# Altium integrated library switch.IntLib: 108 symbols
Pins are listed as number, name and electrical type; pins without a type are passive.

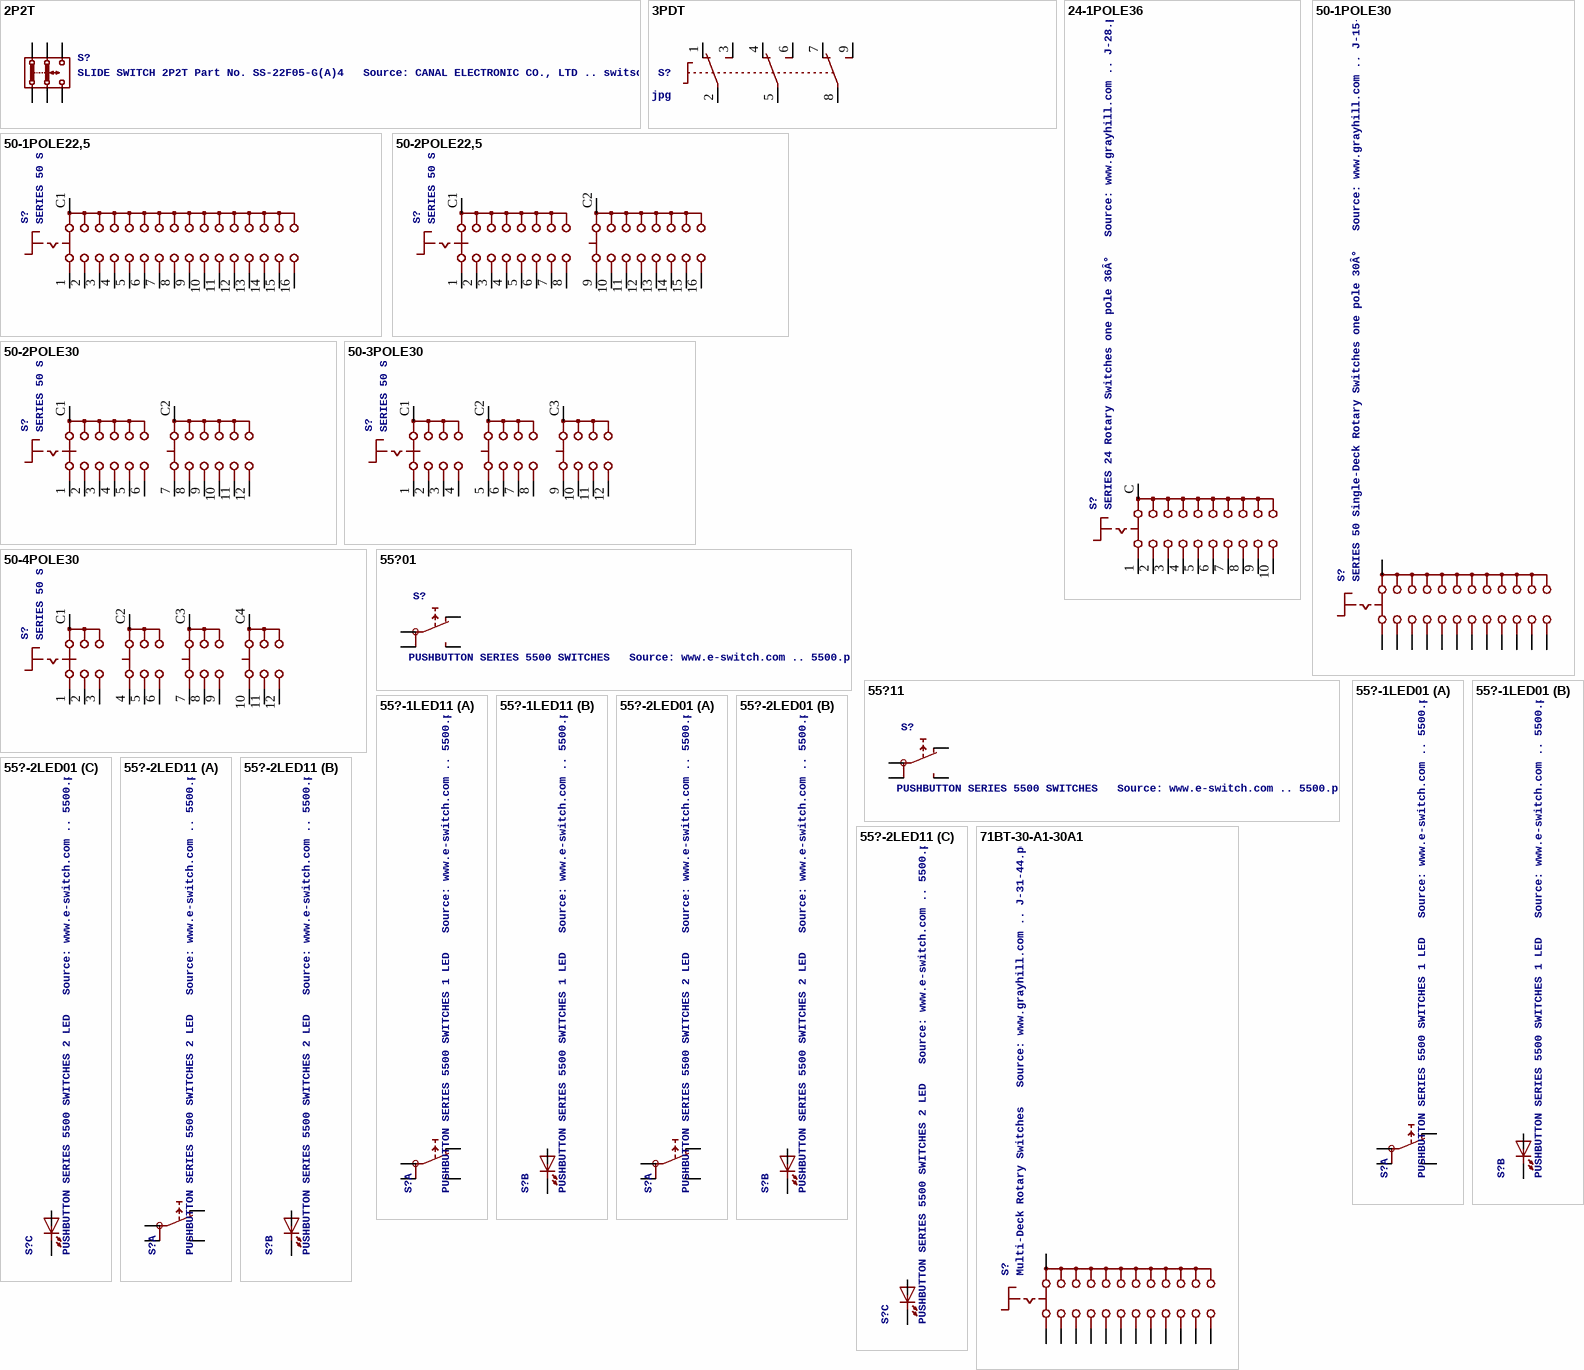
[diagram p0: symbols 2P2T to 71BT-30-A1-30A1]

## 2P2T
designator S?, comment SLIDE SWITCH 2P2T Part No. SS-22F05-G(A)4   Source: CANAL ELECTRONIC CO., LTD .. switsch.pdf
footprint 2P2T
pins: 1.1, 1.2, 2.1, 2.2, 3.1, 3.2

## 3PDT
designator S?, comment 3PDT 9 pin footswitch SF17020F-0302-21R-L   Source: 3PDT.jpg
footprint 3PDT
pins: 1 O1, 2 P1, 3 S1, 4 O2, 5 P2, 6 S2, 7 O3, 8 P3, 9 S3

## 24-1POLE36
designator S?, comment SERIES 24 Rotary Switches one pole 36Â°   Source: www.grayhill.com .. J-28.pdf
footprint 24-1POLE36
pins: 1, 2, 3, 4, 5, 6, 7, 8, 9, 10, C S

## 50-1POLE22,5
designator S?, comment SERIES 50 Single-Deck Rotary Switches one pole 22.5Â°   Source: www.grayhill.com .. J-15-21.pdf
footprint 50-1POLE22,5
pins: 1, 2, 3, 4, 5, 6, 7, 8, 9, 10, 11, 12, 13, 14, 15, 16, C1 C

## 50-1POLE30
designator S?, comment SERIES 50 Single-Deck Rotary Switches one pole 30Â°   Source: www.grayhill.com .. J-15-21.pdf
footprint 50-1POLE30
pins: 1, 2, 3, 4, 5, 6, 7, 8, 9, 10, 11, 12, C A

## 50-2POLE22,5
designator S?, comment SERIES 50 Single-Deck Rotary Switches two pole 22.5Â°   Source: www.grayhill.com .. J-15-21.pdf
footprint 50-2POLE22,5
pins: 1 11, 2 21, 3 31, 4 41, 5 51, 6 61, 7 71, 8 81, 9 12, 10 22, 11 32, 12 42, 13 52, 14 62, 15 72, 16 82, C1 S1, C2 S2

## 50-2POLE30
designator S?, comment SERIES 50 Single-Deck Rotary Switches two pole 30Â°   Source: www.grayhill.com .. J-15-21.pdf
footprint 50-2POLE30
pins: 1 11, 2 21, 3 31, 4 41, 5 51, 6 61, 7 12, 8 22, 9 32, 10 42, 11 52, 12 62, C1 S1, C2 S2

## 50-3POLE30
designator S?, comment SERIES 50 Single-Deck Rotary Switches three pole 30Â°   Source: www.grayhill.com .. J-15-21.pdf
footprint 50-3POLE30
pins: 1 A1, 2 A2, 3 A3, 4 A4, 5 B1, 6 B2, 7 B3, 8 B4, 9 C1, 10 C2, 11 C3, 12 C4, C1 A, C2 B, C3 C

## 50-4POLE30
designator S?, comment SERIES 50 Single-Deck Rotary Switches four pole 30Â°   Source: www.grayhill.com .. J-15-21.pdf
footprint 50-4POLE30
pins: 1 A1, 2 A2, 3 A3, 4 B1, 5 B2, 6 B3, 7 C1, 8 C2, 9 C3, 10 D1, 11 D2, 12 D3, C1 A, C2 B, C3 C, C4 D

## 55?01
designator S?, comment PUSHBUTTON SERIES 5500 SWITCHES   Source: www.e-switch.com .. 5500.pdf
footprint 5501
pins: 1A, 1B, NC, NO

## 55?11
designator S?, comment PUSHBUTTON SERIES 5500 SWITCHES   Source: www.e-switch.com .. 5500.pdf
footprint 5511
pins: 1A, 1B, NC, NO

## 55?-1LED01
designator S?, comment PUSHBUTTON SERIES 5500 SWITCHES 1 LED   Source: www.e-switch.com .. 5500.pdf
footprint 5501-1LED
part A pins: 1A, 1B, NC, NO
part B pins: + A, - K

## 55?-1LED11
designator S?, comment PUSHBUTTON SERIES 5500 SWITCHES 1 LED   Source: www.e-switch.com .. 5500.pdf
footprint 5511-1LED
part A pins: 1A, 1B, NC, NO
part B pins: +G A, -G K

## 55?-2LED01
designator S?, comment PUSHBUTTON SERIES 5500 SWITCHES 2 LED   Source: www.e-switch.com .. 5500.pdf
footprint 5501-2LED
part A pins: 1A, 1B, NC, NO
part B pins: +R A, -R K
part C pins: +G A, -G K

## 55?-2LED11
designator S?, comment PUSHBUTTON SERIES 5500 SWITCHES 2 LED   Source: www.e-switch.com .. 5500.pdf
footprint 5511-2LED
part A pins: 1A, 1B, NC, NO
part B pins: +Y A, -Y K
part C pins: +R A, -R K

## 71BT-30-A1-30A1
designator S?, comment Multi-Deck Rotary Switches   Source: www.grayhill.com .. J-31-44.pdf
footprint 71BT-30-A1
pins: A1 1, A2 2, A3 3, A4 4, A5 5, A6 6, A7 7, A8 8, A9 9, A10 10, A11 11, A12 12, A-C1 A

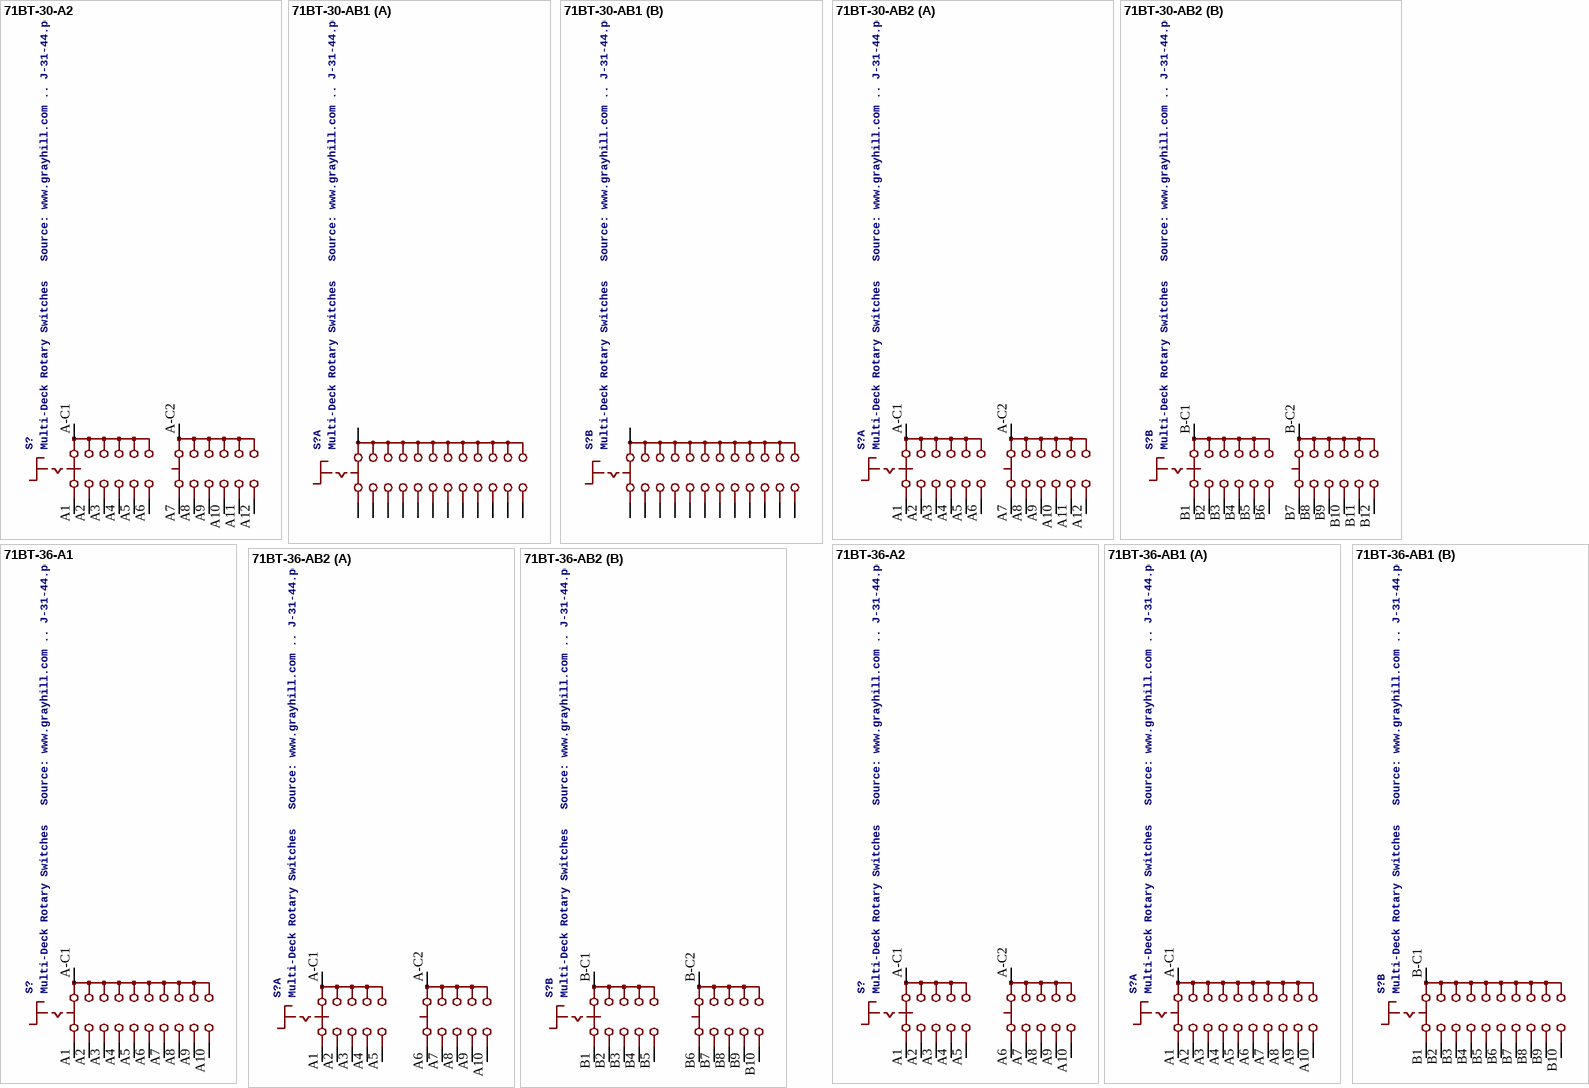
[diagram p1: symbols 71BT-30-A2 to 71BT-36-AB2]

## 71BT-30-A2
designator S?, comment Multi-Deck Rotary Switches   Source: www.grayhill.com .. J-31-44.pdf
footprint 71BT-30-A2
pins: A1 11, A2 21, A3 31, A4 41, A5 51, A6 61, A7 12, A8 22, A9 32, A10 42, A11 52, A12 62, A-C1 S1, A-C2 S2

## 71BT-30-AB1
designator S?, comment Multi-Deck Rotary Switches   Source: www.grayhill.com .. J-31-44.pdf
footprint 71BT-30-AB1
part A pins: A1 1, A2 2, A3 3, A4 4, A5 5, A6 6, A7 7, A8 8, A9 9, A10 10, A11 11, A12 12, A-C1 A
part B pins: B1 1, B2 2, B3 3, B4 4, B5 5, B6 6, B7 7, B8 8, B9 9, B10 10, B11 11, B12 12, B-C1 A

## 71BT-30-AB2
designator S?, comment Multi-Deck Rotary Switches   Source: www.grayhill.com .. J-31-44.pdf
footprint 71BT-30-AB2
part A pins: A1 11, A2 21, A3 31, A4 41, A5 51, A6 61, A7 12, A8 22, A9 32, A10 42, A11 52, A12 62, A-C1 S1, A-C2 S2
part B pins: B1 11, B2 21, B3 31, B4 41, B5 51, B6 61, B7 12, B8 22, B9 32, B10 42, B11 52, B12 62, B-C1 S1, B-C2 S2

## 71BT-36-A1
designator S?, comment Multi-Deck Rotary Switches   Source: www.grayhill.com .. J-31-44.pdf
footprint 71BT-36-A1
pins: A1 1, A2 2, A3 3, A4 4, A5 5, A6 6, A7 7, A8 8, A9 9, A10 10, A-C1 S

## 71BT-36-A2
designator S?, comment Multi-Deck Rotary Switches   Source: www.grayhill.com .. J-31-44.pdf
footprint 71BT-36-A2
pins: A1 11, A2 21, A3 31, A4 41, A5 51, A6 12, A7 22, A8 32, A9 42, A10 52, A-C1 C1, A-C2 C2

## 71BT-36-AB1
designator S?, comment Multi-Deck Rotary Switches   Source: www.grayhill.com .. J-31-44.pdf
footprint 71BT-36-AB1
part A pins: A1 1, A2 2, A3 3, A4 4, A5 5, A6 6, A7 7, A8 8, A9 9, A10 10, A-C1 S
part B pins: B1 1, B2 2, B3 3, B4 4, B5 5, B6 6, B7 7, B8 8, B9 9, B10 10, B-C1 S

## 71BT-36-AB2
designator S?, comment Multi-Deck Rotary Switches   Source: www.grayhill.com .. J-31-44.pdf
footprint 71BT-36-AB2
part A pins: A1 11, A2 21, A3 31, A4 41, A5 51, A6 12, A7 22, A8 32, A9 42, A10 52, A-C1 C1, A-C2 C2
part B pins: B1 11, B2 21, B3 31, B4 41, B5 51, B6 12, B7 22, B8 32, B9 42, B10 52, B-C1 C1, B-C2 C2

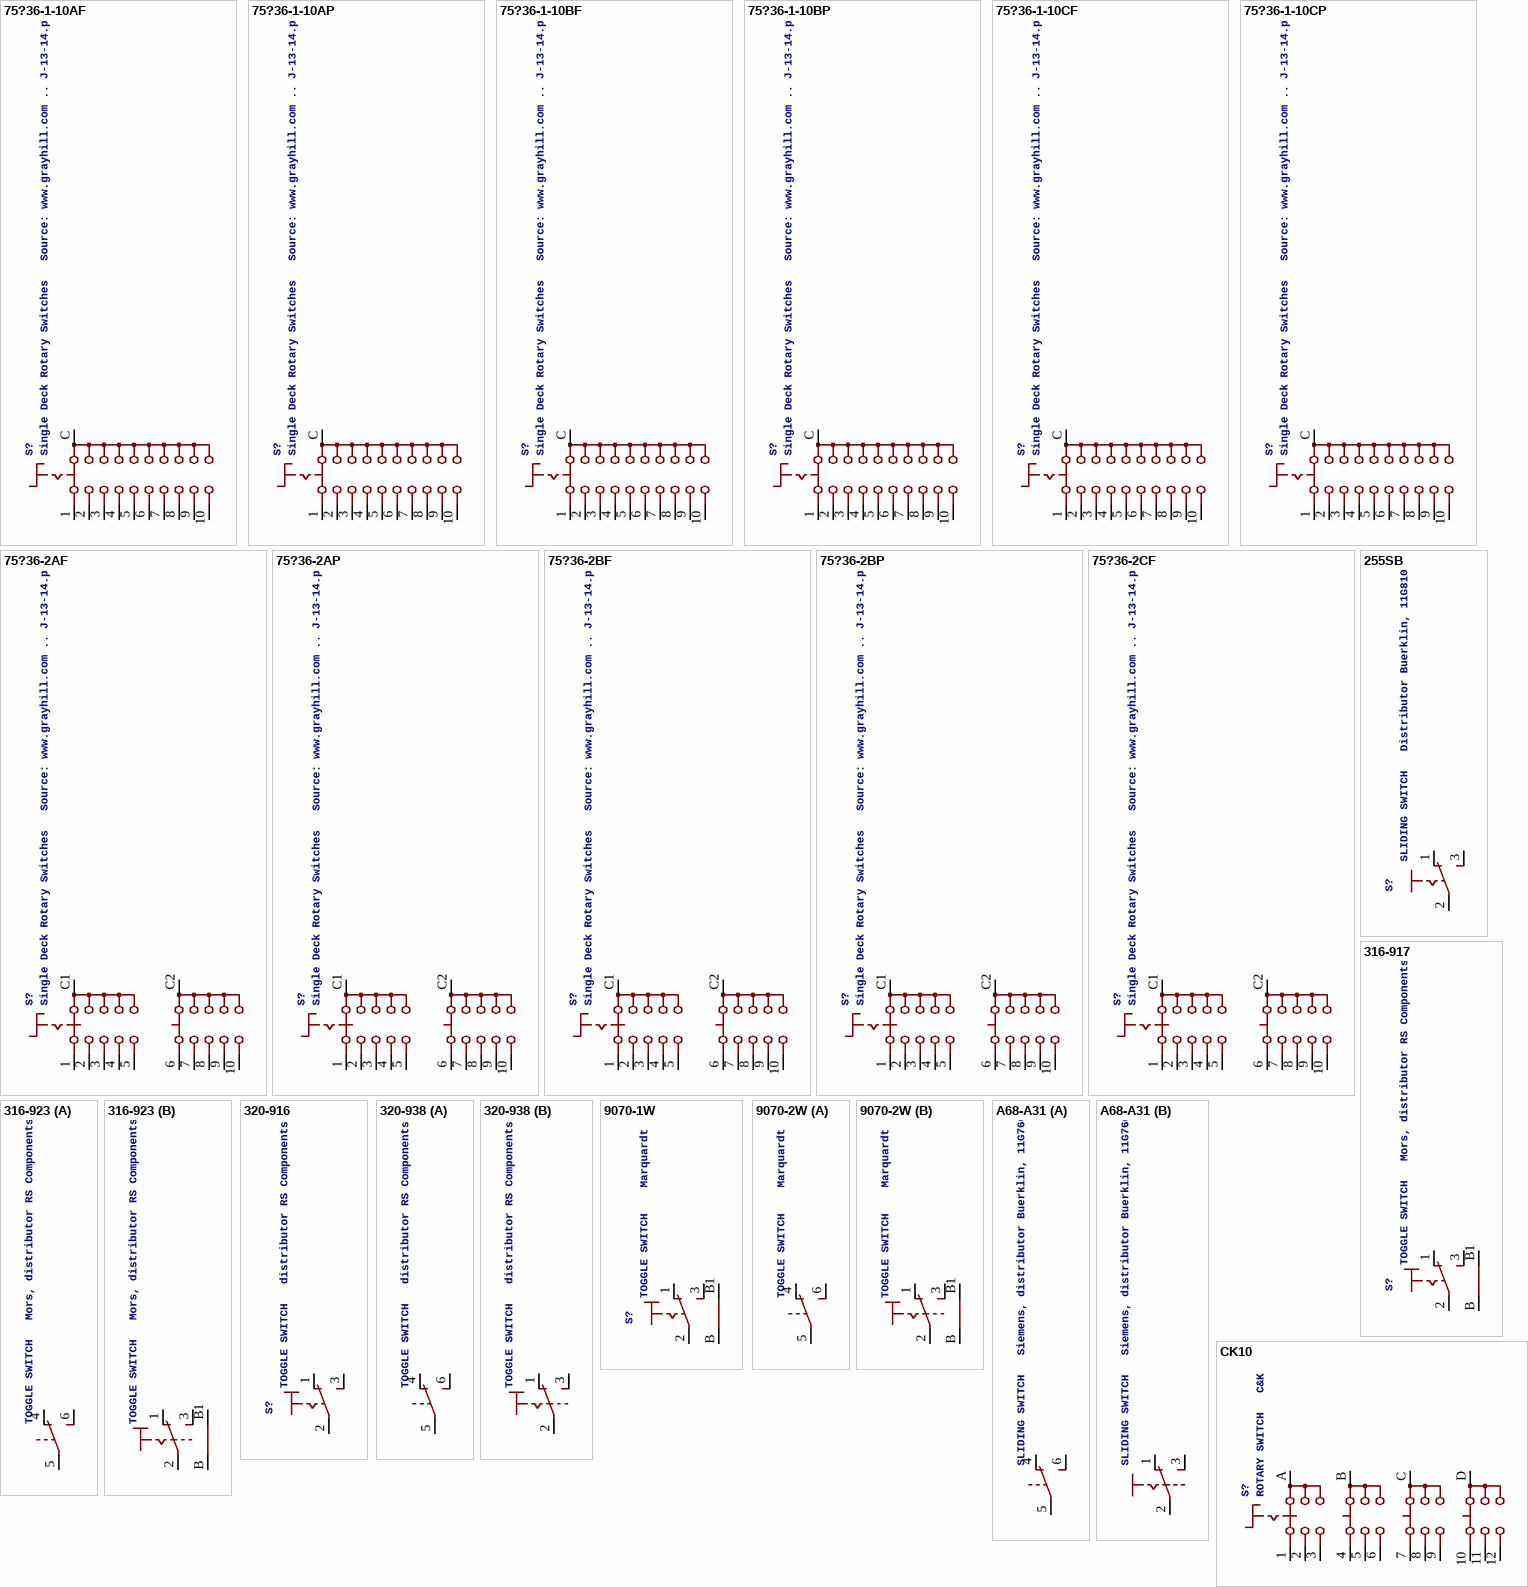
[diagram p2: symbols 75?36-1-10AF to CK10]

## 75?36-1-10AF
designator S?, comment Single Deck Rotary Switches   Source: www.grayhill.com .. J-13-14.pdf
footprint 75AF36
pins: 1, 2, 3, 4, 5, 6, 7, 8, 9, 10, C S

## 75?36-1-10AP
designator S?, comment Single Deck Rotary Switches   Source: www.grayhill.com .. J-13-14.pdf
footprint 75AP36
pins: 1, 2, 3, 4, 5, 6, 7, 8, 9, 10, C S

## 75?36-1-10BF
designator S?, comment Single Deck Rotary Switches   Source: www.grayhill.com .. J-13-14.pdf
footprint 75BF36
pins: 1, 2, 3, 4, 5, 6, 7, 8, 9, 10, C S

## 75?36-1-10BP
designator S?, comment Single Deck Rotary Switches   Source: www.grayhill.com .. J-13-14.pdf
footprint 75BP36
pins: 1, 2, 3, 4, 5, 6, 7, 8, 9, 10, C S

## 75?36-1-10CF
designator S?, comment Single Deck Rotary Switches   Source: www.grayhill.com .. J-13-14.pdf
footprint 75CF36
pins: 1, 2, 3, 4, 5, 6, 7, 8, 9, 10, C S

## 75?36-1-10CP
designator S?, comment Single Deck Rotary Switches   Source: www.grayhill.com .. J-13-14.pdf
footprint 75CP36
pins: 1, 2, 3, 4, 5, 6, 7, 8, 9, 10, C S

## 75?36-2AF
designator S?, comment Single Deck Rotary Switches   Source: www.grayhill.com .. J-13-14.pdf
footprint 75AF36-2
pins: 1 11, 2 21, 3 31, 4 41, 5 51, 6 12, 7 22, 8 32, 9 42, 10 52, C1, C2

## 75?36-2AP
designator S?, comment Single Deck Rotary Switches   Source: www.grayhill.com .. J-13-14.pdf
footprint 75AP36-2
pins: 1 11, 2 21, 3 31, 4 41, 5 51, 6 12, 7 22, 8 32, 9 42, 10 52, C1, C2

## 75?36-2BF
designator S?, comment Single Deck Rotary Switches   Source: www.grayhill.com .. J-13-14.pdf
footprint 75BF36-2
pins: 1 11, 2 21, 3 31, 4 41, 5 51, 6 12, 7 22, 8 32, 9 42, 10 52, C1, C2

## 75?36-2BP
designator S?, comment Single Deck Rotary Switches   Source: www.grayhill.com .. J-13-14.pdf
footprint 75BP36-2
pins: 1 11, 2 21, 3 31, 4 41, 5 51, 6 12, 7 22, 8 32, 9 42, 10 52, C1, C2

## 75?36-2CF
designator S?, comment Single Deck Rotary Switches   Source: www.grayhill.com .. J-13-14.pdf
footprint 75CF36-2
pins: 1 11, 2 21, 3 31, 4 41, 5 51, 6 12, 7 22, 8 32, 9 42, 10 52, C1, C2

## 255SB
designator S?, comment SLIDING SWITCH   Distributor Buerklin, 11G810
footprint 255SB
pins: 1 O, 2 P, 3 S

## 316-917
designator S?, comment TOGGLE SWITCH   Mors, distributor RS Components
footprint 316-917
pins: 1 O, 2 P, 3 S, B, B1

## 316-923
designator S?, comment TOGGLE SWITCH   Mors, distributor RS Components
footprint 316-923
part A pins: 4 O, 5 P, 6 S
part B pins: 1 O, 2 P, 3 S, B, B1

## 320-916
designator S?, comment TOGGLE SWITCH   distributor RS Components
footprint 320-916
pins: 1 O, 2 P, 3 S

## 320-938
designator S?, comment TOGGLE SWITCH   distributor RS Components
footprint 320-938
part A pins: 4 O, 5 P, 6 S
part B pins: 1 O, 2 P, 3 S

## 9070-1W
designator S?, comment TOGGLE SWITCH    Marquardt
footprint 9070-1W
pins: 1 O, 2 P, 3 S, B, B1

## 9070-2W
designator S?, comment TOGGLE SWITCH    Marquardt
footprint 9070-2W
part A pins: 4 O, 5 P, 6 S
part B pins: 1 O, 2 P, 3 S, B, B1

## A68-A31
designator S?, comment SLIDING SWITCH   Siemens, distributor Buerklin, 11G766
footprint A68-A31
part A pins: 4 O, 5 P, 6 S
part B pins: 1 O, 2 P, 3 S

## CK10
designator S?, comment ROTARY SWITCH   C&K
footprint CK10
pins: 1 A1, 2 A2, 3 A3, 4 B1, 5 B2, 6 B3, 7 C1, 8 C2, 9 C3, 10 D1, 11 D2, 12 D3, A, B, C, D

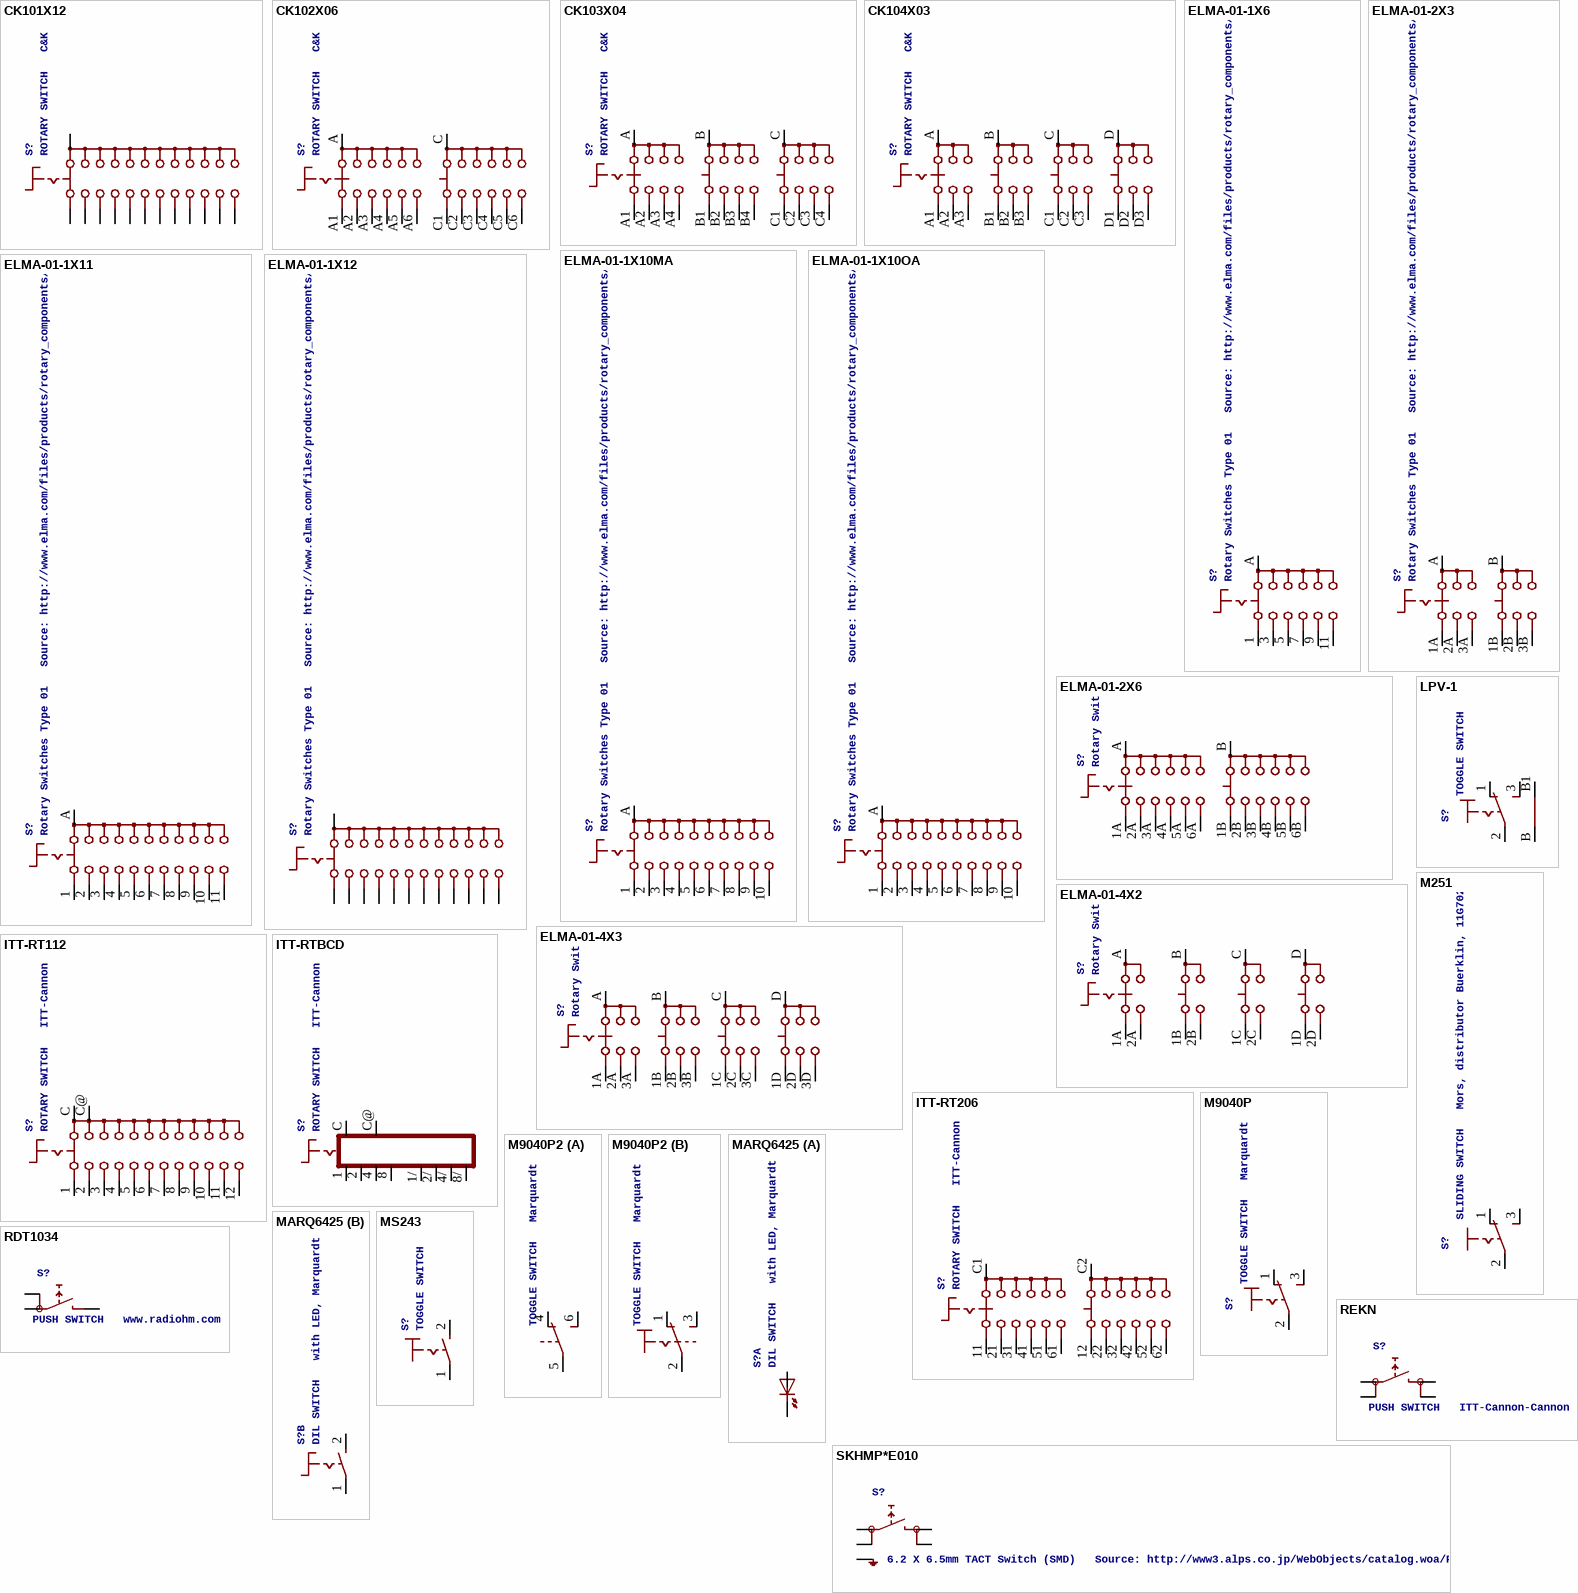
[diagram p3: symbols CK101X12 to SKHMP*E010]

## CK101X12
designator S?, comment ROTARY SWITCH   C&K
footprint CK101X12
pins: 1, 2, 3, 4, 5, 6, 7, 8, 9, 10, 11, 12, A

## CK102X06
designator S?, comment ROTARY SWITCH   C&K
footprint CK102X06
pins: A, A1, A2, A3, A4, A5, A6, C, C1, C2, C3, C4, C5, C6

## CK103X04
designator S?, comment ROTARY SWITCH   C&K
footprint CK103X04
pins: A, A1, A2, A3, A4, B, B1, B2, B3, B4, C, C1, C2, C3, C4

## CK104X03
designator S?, comment ROTARY SWITCH   C&K
footprint CK104X03
pins: A, A1, A2, A3, B, B1, B2, B3, C, C1, C2, C3, D, D1, D2, D3

## ELMA-01-1X6
designator S?, comment Rotary Switches Type 01   Source: http://www.elma.com/files/products/rotary_components/pdfs/rotary_switches_type_01_002.pdf
footprint ELMA-01-1X6
pins: 1, 3 2, 5 3, 7 4, 9 5, 11 6, A S

## ELMA-01-1X10MA
designator S?, comment Rotary Switches Type 01   Source: http://www.elma.com/files/products/rotary_components/pdfs/rotary_switches_type_01_002.pdf
footprint ELMA-01-1X10MA
pins: 1, 2, 3, 4, 5, 6, 7, 8, 9, 10, A S

## ELMA-01-1X10OA
designator S?, comment Rotary Switches Type 01   Source: http://www.elma.com/files/products/rotary_components/pdfs/rotary_switches_type_01_002.pdf
footprint ELMA-01-1X10OA
pins: 1, 2, 3, 4, 5, 6, 7, 8, 9, 10, A S

## ELMA-01-1X11
designator S?, comment Rotary Switches Type 01   Source: http://www.elma.com/files/products/rotary_components/pdfs/rotary_switches_type_01_002.pdf
footprint ELMA-01-1X11
pins: 1, 2, 3, 4, 5, 6, 7, 8, 9, 10, 11, A S

## ELMA-01-1X12
designator S?, comment Rotary Switches Type 01   Source: http://www.elma.com/files/products/rotary_components/pdfs/rotary_switches_type_01_002.pdf
footprint ELMA-01-1X12
pins: 1, 2, 3, 4, 5, 6, 7, 8, 9, 10, 11, 12, A

## ELMA-01-2X3
designator S?, comment Rotary Switches Type 01   Source: http://www.elma.com/files/products/rotary_components/pdfs/rotary_switches_type_01_002.pdf
footprint ELMA-01-2X3
pins: 1A A1, 1B B1, 2A A2, 2B B2, 3A A3, 3B B3, A, B

## ELMA-01-2X6
designator S?, comment Rotary Switches Type 01   Source: http://www.elma.com/files/products/rotary_components/pdfs/rotary_switches_type_01_002.pdf
footprint ELMA-01-2X6
pins: 1A 11, 1B 12, 2A 21, 2B 22, 3A 31, 3B 32, 4A 41, 4B 42, 5A 51, 5B 52, 6A 61, 6B 62, A S1, B S2

## ELMA-01-4X2
designator S?, comment Rotary Switches Type 01   Source: http://www.elma.com/files/products/rotary_components/pdfs/rotary_switches_type_01_002.pdf
footprint ELMA-01-4X2
pins: 1A A1, 1B B1, 1C C1, 1D D1, 2A A2, 2B B2, 2C C2, 2D D2, A, B, C, D

## ELMA-01-4X3
designator S?, comment Rotary Switches Type 01   Source: http://www.elma.com/files/products/rotary_components/pdfs/rotary_switches_type_01_002.pdf
footprint ELMA-01-4X3
pins: 1A A1, 1B B1, 1C C1, 1D D1, 2A A2, 2B B2, 2C C2, 2D D2, 3A A3, 3B B3, 3C C3, 3D D3, A, B, C, D

## ITT-RT112
designator S?, comment ROTARY SWITCH   ITT-Cannon
footprint ITT-RT112
pins: 1, 2, 3, 4, 5, 6, 7, 8, 9, 10, 11, 12, C, C@

## ITT-RT206
designator S?, comment ROTARY SWITCH   ITT-Cannon
footprint ITT-RT206
pins: 11, 12, 21, 22, 31, 32, 41, 42, 51, 52, 61, 62, C1 S1, C2 S2

## ITT-RTBCD
designator S?, comment ROTARY SWITCH   ITT-Cannon
footprint ITT-RTBCD
pins: 1, 1/, 2, 2/, 4, 4/, 8, 8/, C, C@

## LPV-1
designator S?, comment TOGGLE SWITCH
footprint LPV-1
pins: 1 O, 2 P, 3 S, B, B1

## M251
designator S?, comment SLIDING SWITCH   Mors, distributor Buerklin, 11G702
footprint M251
pins: 1 O, 2 P, 3 S

## M9040P
designator S?, comment TOGGLE SWITCH   Marquardt
footprint M9040P
pins: 1 O, 2 P, 3 S

## M9040P2
designator S?, comment TOGGLE SWITCH   Marquardt
footprint M9040P2
part A pins: 4 O, 5 P, 6 S
part B pins: 1 O, 2 P, 3 S

## MARQ6425
designator S?, comment DIL SWITCH   with LED, Marquardt
footprint MARQ6425
part A pins: A, K
part B pins: 1 P, 2 S

## MS243
designator S?, comment TOGGLE SWITCH
footprint MS243
pins: 1 P, 2 S

## RDT1034
designator S?, comment PUSH SWITCH   www.radiohm.com
footprint RDT1034
pins: A, A1, B

## REKN
designator S?, comment PUSH SWITCH   ITT-Cannon-Cannon
footprint REKN
pins: 0A 0@A, 0B 0@B, 1A 1@A, 1B 1@B

## SKHMP*E010
designator S?, comment 6.2 X 6.5mm TACT Switch (SMD)   Source: http://www3.alps.co.jp/WebObjects/catalog.woa/PDF/E/Switch/Tact/SKHM/SKHM.PDF
footprint SKHMPXE010
pins: 1 1.1, 2 1.2, 3 2.1, 4 2.2, 5 SH

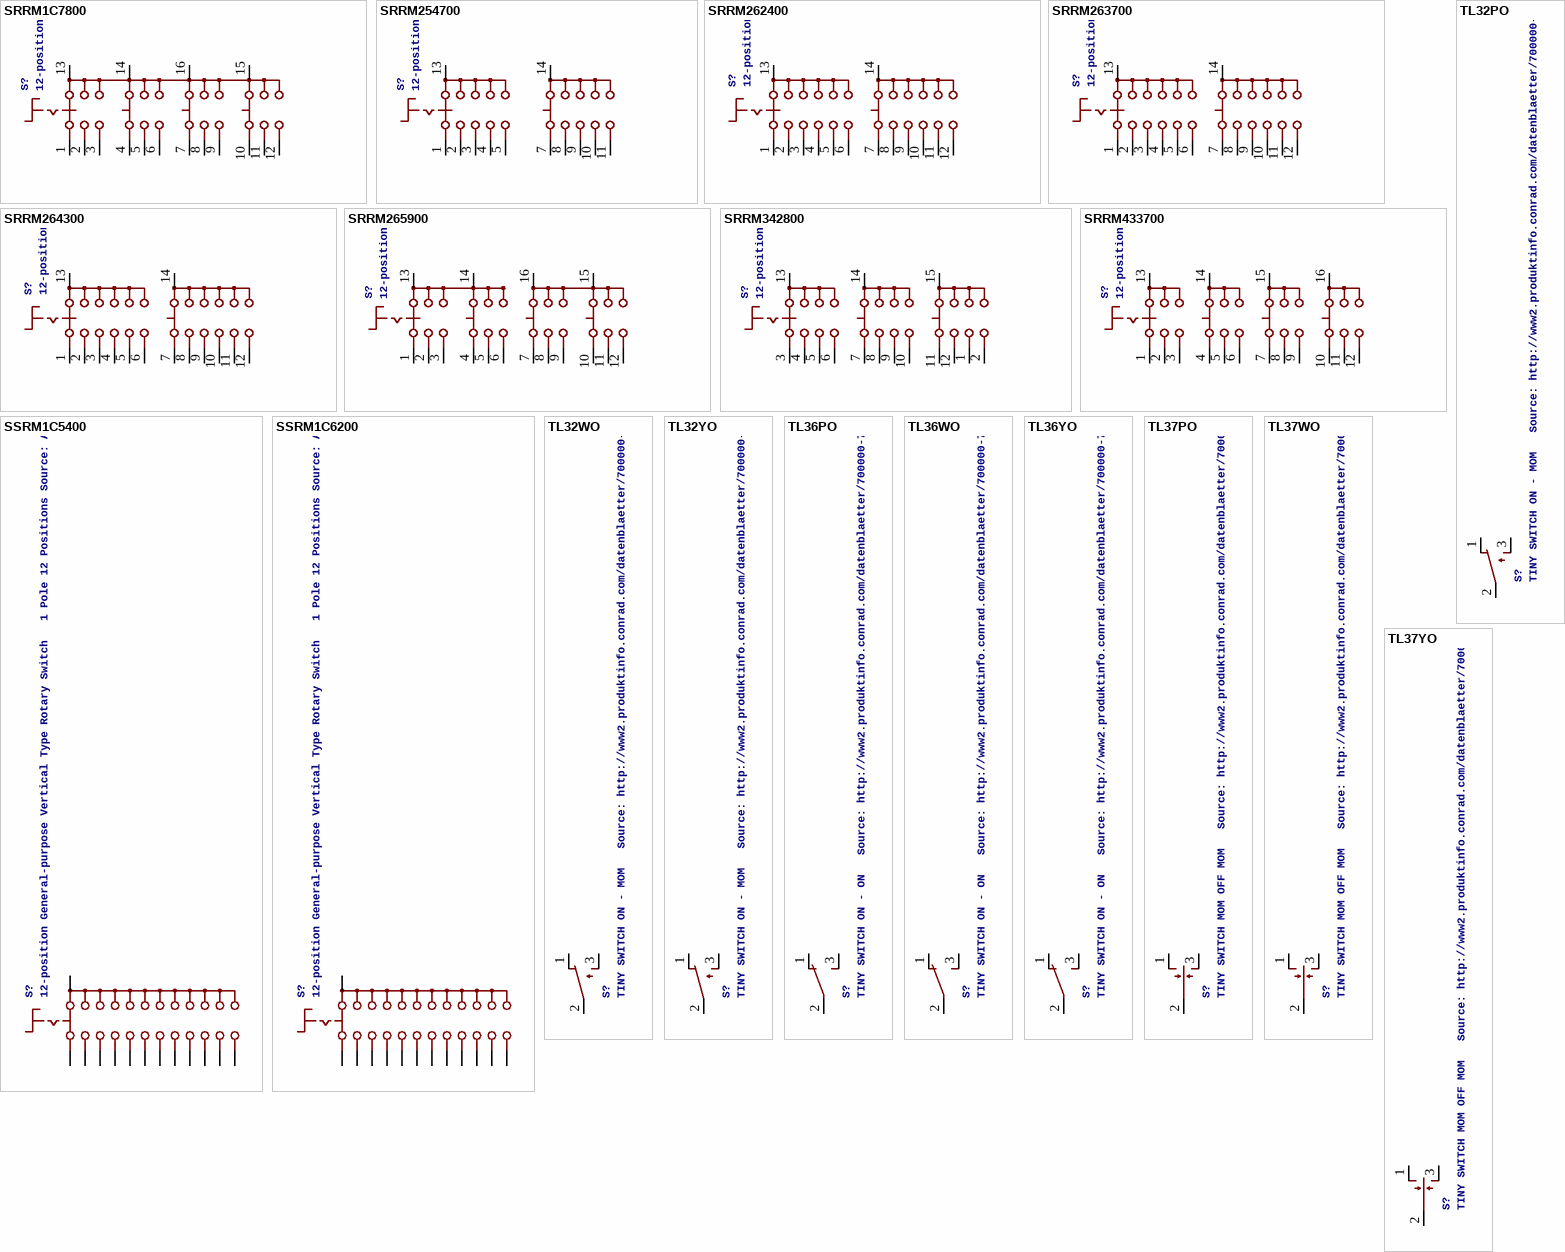
[diagram p4: symbols SRRM1C7800 to TL37YO]

## SRRM1C7800
designator S?, comment 12-position General-purpose Vertical Type Rotary Switch   1 Pole 12 Positions Source: ALPS - SRRM.pdf
footprint SRRM-4
pins: 1 A1, 2 A2, 3 A3, 4 B1, 5 B2, 6 B3, 7 C1, 8 C2, 9 C3, 10 D1, 11 D2, 12 D3, 13 A, 14 B, 15 D, 16 C

## SRRM254700
designator S?, comment 12-position General-purpose Vertical Type Rotary Switch   2 Pole 5 Positions Source: ALPS - SRRM.pdf
footprint SRRM254700
pins: 1 11, 2 21, 3 31, 4 41, 5 51, 7 12, 8 22, 9 32, 10 42, 11 52, 13 C1, 14 C2

## SRRM262400
designator S?, comment 12-position General-purpose Vertical Type Rotary Switch   2 Pole 6 Positions Source: ALPS - SRRM.pdf
footprint SRRM262400
pins: 1 A1, 2 A2, 3 A3, 4 A4, 5 A5, 6 A6, 7 C1, 8 C2, 9 C3, 10 C4, 11 C5, 12 C6, 13 A, 14 C

## SRRM263700
designator S?, comment 12-position General-purpose Vertical Type Rotary Switch   2 Pole 6 Positions Source: ALPS - SRRM.pdf
footprint SRRM263700
pins: 1 A1, 2 A2, 3 A3, 4 A4, 5 A5, 6 A6, 7 C1, 8 C2, 9 C3, 10 C4, 11 C5, 12 C6, 13 A, 14 C

## SRRM264300
designator S?, comment 12-position General-purpose Vertical Type Rotary Switch   2 Pole 6 Positions Source: ALPS - SRRM.pdf
footprint SRRM264300
pins: 1 A1, 2 A2, 3 A3, 4 A4, 5 A5, 6 A6, 7 C1, 8 C2, 9 C3, 10 C4, 11 C5, 12 C6, 13 A, 14 C

## SRRM265900
designator S?, comment 12-position General-purpose Vertical Type Rotary Switch   2 Pole 6 Positions Source: ALPS - SRRM.pdf
footprint SRRM265900
pins: 1 A1, 2 A2, 3 A3, 4 B1, 5 B2, 6 B3, 7 C1, 8 C2, 9 C3, 10 D1, 11 D2, 12 D3, 13 A, 14 B, 15 D, 16 C

## SRRM342800
designator S?, comment 12-position General-purpose Vertical Type Rotary Switch   3 Pole 4 Positions Source: ALPS - SRRM.pdf
footprint SRRM342800
pins: 1 C3, 2 C4, 3 A1, 4 A2, 5 A3, 6 A4, 7 B1, 8 B2, 9 B3, 10 B4, 11 C1, 12 C2, 13 A, 14 B, 15 C

## SRRM433700
designator S?, comment 12-position General-purpose Vertical Type Rotary Switch   4 Pole 3 Positions Source: ALPS - SRRM.pdf
footprint SRRM433700
pins: 1 A1, 2 A2, 3 A3, 4 B1, 5 B2, 6 B3, 7 C1, 8 C2, 9 C3, 10 D1, 11 D2, 12 D3, 13 A, 14 B, 15 C, 16 D

## SSRM1C5400
designator S?, comment 12-position General-purpose Vertical Type Rotary Switch   1 Pole 12 Positions Source: ALPS - SRRM.pdf
footprint SRRM1C5400
pins: 1, 2, 3, 4, 5, 6, 7, 8, 9, 10, 11, 12, 13 A

## SSRM1C6200
designator S?, comment 12-position General-purpose Vertical Type Rotary Switch   1 Pole 12 Positions Source: ALPS - SRRM.pdf
footprint SSRM1C6200
pins: 1, 2, 3, 4, 5, 6, 7, 8, 9, 10, 11, 12, 13 A

## TL32PO
designator S?, comment TINY SWITCH ON - MOM   Source: http://www2.produktinfo.conrad.com/datenblaetter/700000-724999/705152-da-01-de-Subminiaturschalter_TL_36YO.pdf
footprint TL3XPO
pins: 1 O, 2 P, 3 S

## TL32WO
designator S?, comment TINY SWITCH ON - MOM   Source: http://www2.produktinfo.conrad.com/datenblaetter/700000-724999/705152-da-01-de-Subminiaturschalter_TL_36WO.pdf
footprint TL3XWO
pins: 1 O, 2 P, 3 S

## TL32YO
designator S?, comment TINY SWITCH ON - MOM   Source: http://www2.produktinfo.conrad.com/datenblaetter/700000-724999/705152-da-01-de-Subminiaturschalter_TL_36YO.pdf
footprint TL3XYO
pins: 1 O, 2 P, 3 S

## TL36PO
designator S?, comment TINY SWITCH ON - ON   Source: http://www2.produktinfo.conrad.com/datenblaetter/700000-724999/705152-da-01-de-Subminiaturschalter_TL_36YO.pdf
footprint TL3XPO
pins: 1 O, 2 P, 3 S

## TL36WO
designator S?, comment TINY SWITCH ON - ON   Source: http://www2.produktinfo.conrad.com/datenblaetter/700000-724999/705152-da-01-de-Subminiaturschalter_TL_36WO.pdf
footprint TL3XWO
pins: 1 O, 2 P, 3 S

## TL36YO
designator S?, comment TINY SWITCH ON - ON   Source: http://www2.produktinfo.conrad.com/datenblaetter/700000-724999/705152-da-01-de-Subminiaturschalter_TL_36YO.pdf
footprint TL3XYO
pins: 1 O, 2 P, 3 S

## TL37PO
designator S?, comment TINY SWITCH MOM OFF MOM   Source: http://www2.produktinfo.conrad.com/datenblaetter/700000-724999/705152-da-01-de-Subminiaturschalter_TL_36YO.pdf
footprint TL3XPO
pins: 1 O, 2 P, 3 S

## TL37WO
designator S?, comment TINY SWITCH MOM OFF MOM   Source: http://www2.produktinfo.conrad.com/datenblaetter/700000-724999/705152-da-01-de-Subminiaturschalter_TL_36WO.pdf
footprint TL3XWO
pins: 1 O, 2 P, 3 S

## TL37YO
designator S?, comment TINY SWITCH MOM OFF MOM   Source: http://www2.produktinfo.conrad.com/datenblaetter/700000-724999/705152-da-01-de-Subminiaturschalter_TL_36YO.pdf
footprint TL3XYO
pins: 1 O, 2 P, 3 S

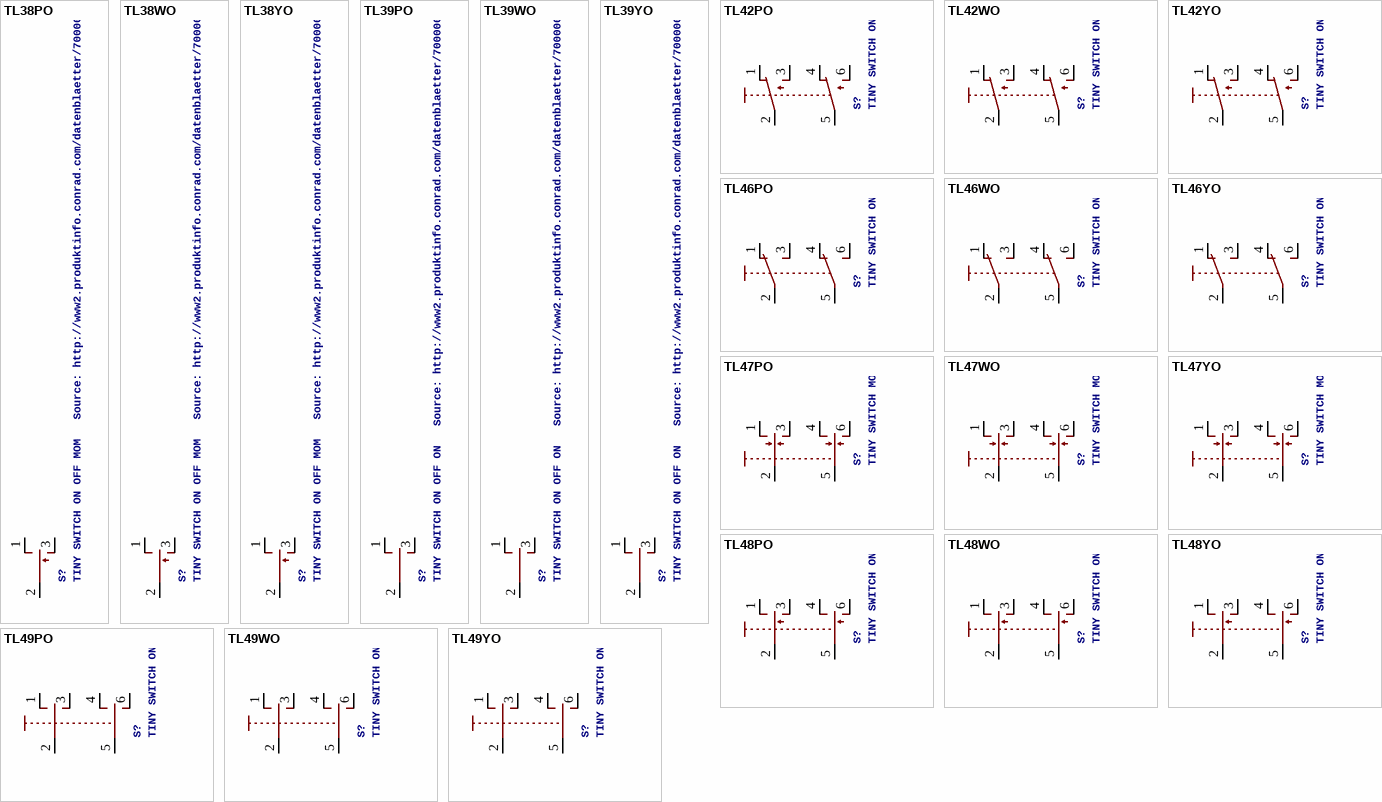
[diagram p5: symbols TL38PO to TL49YO]

## TL38PO
designator S?, comment TINY SWITCH ON OFF MOM   Source: http://www2.produktinfo.conrad.com/datenblaetter/700000-724999/705152-da-01-de-Subminiaturschalter_TL_36YO.pdf
footprint TL3XPO
pins: 1 O, 2 P, 3 S

## TL38WO
designator S?, comment TINY SWITCH ON OFF MOM   Source: http://www2.produktinfo.conrad.com/datenblaetter/700000-724999/705152-da-01-de-Subminiaturschalter_TL_36WO.pdf
footprint TL3XWO
pins: 1 O, 2 P, 3 S

## TL38YO
designator S?, comment TINY SWITCH ON OFF MOM   Source: http://www2.produktinfo.conrad.com/datenblaetter/700000-724999/705152-da-01-de-Subminiaturschalter_TL_36YO.pdf
footprint TL3XYO
pins: 1 O, 2 P, 3 S

## TL39PO
designator S?, comment TINY SWITCH ON OFF ON   Source: http://www2.produktinfo.conrad.com/datenblaetter/700000-724999/705152-da-01-de-Subminiaturschalter_TL_36YO.pdf
footprint TL3XPO
pins: 1 O, 2 P, 3 S

## TL39WO
designator S?, comment TINY SWITCH ON OFF ON   Source: http://www2.produktinfo.conrad.com/datenblaetter/700000-724999/705152-da-01-de-Subminiaturschalter_TL_36WO.pdf
footprint TL3XWO
pins: 1 O, 2 P, 3 S

## TL39YO
designator S?, comment TINY SWITCH ON OFF ON   Source: http://www2.produktinfo.conrad.com/datenblaetter/700000-724999/705152-da-01-de-Subminiaturschalter_TL_36YO.pdf
footprint TL3XYO
pins: 1 O, 2 P, 3 S

## TL42PO
designator S?, comment TINY SWITCH ON - MOM   Source: http://www2.produktinfo.conrad.com/datenblaetter/700000-724999/705152-da-01-de-Subminiaturschalter_TL_36YO.pdf
footprint TL4XPO
pins: 1 O, 2 P, 3 S, 4 O1, 5 P1, 6 S1

## TL42WO
designator S?, comment TINY SWITCH ON - MOM   Source: http://www2.produktinfo.conrad.com/datenblaetter/700000-724999/705152-da-01-de-Subminiaturschalter_TL_36WO.pdf
footprint TL4XWO
pins: 1 O, 2 P, 3 S, 4 O1, 5 P1, 6 S1

## TL42YO
designator S?, comment TINY SWITCH ON - MOM   Source: http://www2.produktinfo.conrad.com/datenblaetter/700000-724999/705152-da-01-de-Subminiaturschalter_TL_36YO.pdf
footprint TL4XYO
pins: 1 O, 2 P, 3 S, 4 O1, 5 P1, 6 S1

## TL46PO
designator S?, comment TINY SWITCH ON - ON   Source: http://www2.produktinfo.conrad.com/datenblaetter/700000-724999/705152-da-01-de-Subminiaturschalter_TL_36YO.pdf
footprint TL4XPO
pins: 1 O, 2 P, 3 S, 4 O1, 5 P1, 6 S1

## TL46WO
designator S?, comment TINY SWITCH ON - ON   Source: http://www2.produktinfo.conrad.com/datenblaetter/700000-724999/705152-da-01-de-Subminiaturschalter_TL_36WO.pdf
footprint TL4XWO
pins: 1 O, 2 P, 3 S, 4 O1, 5 P1, 6 S1

## TL46YO
designator S?, comment TINY SWITCH ON - ON   Source: http://www2.produktinfo.conrad.com/datenblaetter/700000-724999/705152-da-01-de-Subminiaturschalter_TL_36YO.pdf
footprint TL4XYO
pins: 1 O, 2 P, 3 S, 4 O1, 5 P1, 6 S1

## TL47PO
designator S?, comment TINY SWITCH MOM OFF MOM   Source: http://www2.produktinfo.conrad.com/datenblaetter/700000-724999/705152-da-01-de-Subminiaturschalter_TL_36YO.pdf
footprint TL4XPO
pins: 1 O, 2 P, 3 S, 4 O1, 5 P1, 6 S1

## TL47WO
designator S?, comment TINY SWITCH MOM OFF MOM   Source: http://www2.produktinfo.conrad.com/datenblaetter/700000-724999/705152-da-01-de-Subminiaturschalter_TL_36WO.pdf
footprint TL4XWO
pins: 1 O, 2 P, 3 S, 4 O1, 5 P1, 6 S1

## TL47YO
designator S?, comment TINY SWITCH MOM OFF MOM   Source: http://www2.produktinfo.conrad.com/datenblaetter/700000-724999/705152-da-01-de-Subminiaturschalter_TL_36YO.pdf
footprint TL4XYO
pins: 1 O, 2 P, 3 S, 4 O1, 5 P1, 6 S1

## TL48PO
designator S?, comment TINY SWITCH ON OFF MOM   Source: http://www2.produktinfo.conrad.com/datenblaetter/700000-724999/705152-da-01-de-Subminiaturschalter_TL_36YO.pdf
footprint TL4XPO
pins: 1 O, 2 P, 3 S, 4 O1, 5 P1, 6 S1

## TL48WO
designator S?, comment TINY SWITCH ON OFF MOM   Source: http://www2.produktinfo.conrad.com/datenblaetter/700000-724999/705152-da-01-de-Subminiaturschalter_TL_36WO.pdf
footprint TL4XWO
pins: 1 O, 2 P, 3 S, 4 O1, 5 P1, 6 S1

## TL48YO
designator S?, comment TINY SWITCH ON OFF MOM   Source: http://www2.produktinfo.conrad.com/datenblaetter/700000-724999/705152-da-01-de-Subminiaturschalter_TL_36YO.pdf
footprint TL4XYO
pins: 1 O, 2 P, 3 S, 4 O1, 5 P1, 6 S1

## TL49PO
designator S?, comment TINY SWITCH ON OFF ON   Source: http://www2.produktinfo.conrad.com/datenblaetter/700000-724999/705152-da-01-de-Subminiaturschalter_TL_36YO.pdf
footprint TL4XPO
pins: 1 O, 2 P, 3 S, 4 O1, 5 P1, 6 S1

## TL49WO
designator S?, comment TINY SWITCH ON OFF ON   Source: http://www2.produktinfo.conrad.com/datenblaetter/700000-724999/705152-da-01-de-Subminiaturschalter_TL_36WO.pdf
footprint TL4XWO
pins: 1 O, 2 P, 3 S, 4 O1, 5 P1, 6 S1

## TL49YO
designator S?, comment TINY SWITCH ON OFF ON   Source: http://www2.produktinfo.conrad.com/datenblaetter/700000-724999/705152-da-01-de-Subminiaturschalter_TL_36YO.pdf
footprint TL4XYO
pins: 1 O, 2 P, 3 S, 4 O1, 5 P1, 6 S1